# Altium integrated library MWSA0603S-XRXMT.IntLib: 1 symbol
Pins are listed as number, name and electrical type; pins without a type are passive.

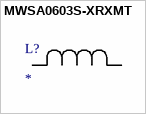
[diagram p0: symbol MWSA0603S-XRXMT]

## MWSA0603S-XRXMT
designator L?
No Description Available; Mfr_Name: Sunlord
footprint IND_MWSA0603S_SNL
pins: 1, 2